# Altium integrated library Altium_Ceramic_Cap.IntLib: 106 symbols (part 3 of 3)
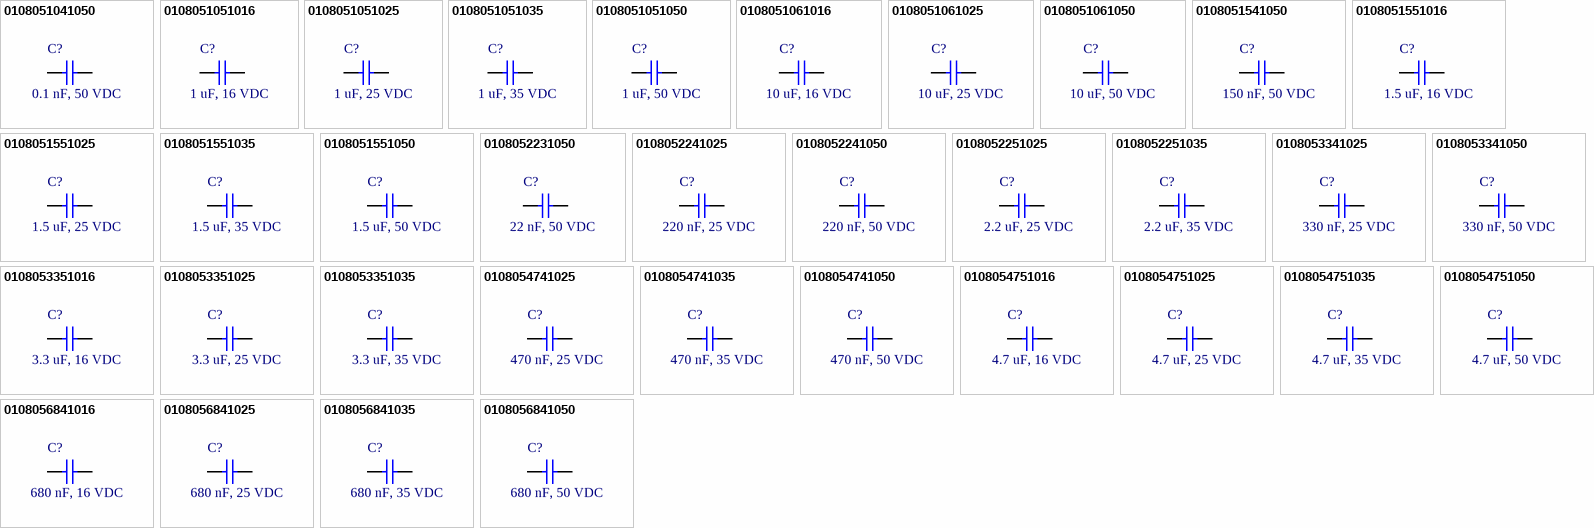
[diagram p7: symbols 0108051041050 to 0108056841050]

## 0108053341050
designator C?, comment 330 nF, 50 VDC
CAP, size 0805, 330 nF, 50 VDC, 10%; Manufacturer: TDK; Manufacturer Part Number: CGA4J2X7R1H334K125AD; Capacitance: 330 nF; Tolerance: +/-10%; Voltage Rating DC: 50 VDC; Packaging: Tape and Reel; Supplier 1 URL: https://www.mouser.vn/ProductDetail/TDK/CGA4J2X7R1H334K125AD?qs=xLDY6iXSiQb7ZJMECTmK7Q%3D%3D&utm_source=mouser-refine-download&utm_medium=file&utm_campaign=CGA4J2X7R1H334K125AD&utm_content=TDK; Supplier 2 URL: https://www.digikey.com/en/products/detail/tdk-corporation/cga4j2x7r1h334k125ad/3933666; Supplier 3 URL: N/A; Value: 330 nF, 50 VDC; Supplier 1: Mouser; Supplier 1 Part Number: 810-CGA4J2X7R1H334KD; Supplier 2: Digi-Key; Supplier 2 Part Number: 445-9933-2-ND; Supplier 3: thegioiic; Supplier 3 Part Number: OEM; ComponentLink1Description: Datasheet; ComponentLink1URL: https://product.tdk.com/system/files/dam/doc/product/capacitor/ceramic/mlcc/catalog/mlcc_automotive_epoxy_en.pdf?ref_disty=mouser; Mount: SMD/SMT; Operating Temperature Max: + 85 C; Operating Temperature Min: - 40 C; Package / Case: 0805
footprint CAP_0805
pins: 1, 2

## 0108053351016
designator C?, comment 3.3 uF, 16 VDC
CAP, size 0805, 3.3 uF, 16 VDC, 10%; Manufacturer: TDK; Manufacturer Part Number: CGA4J1X8L1C335K125AC; Capacitance: 3.3 uF; Tolerance: +/-10%; Voltage Rating DC: 16 VDC; Packaging: Tape and Reel; Supplier 1 URL: https://www.mouser.vn/ProductDetail/TDK/CGA4J1X8L1C335K125AC?qs=j%252B1pi9TdxUbi1c9Zq1jQkQ%3D%3D&utm_source=mouser-refine-download&utm_medium=file&utm_campaign=CGA4J1X8L1C335K125AC&utm_content=TDK; Supplier 2 URL: https://www.digikey.com/en/products/detail/tdk-corporation/cga4j1x8l1c335k125ac/7930940; Supplier 3 URL: N/A; Value: 3.3 uF, 16 VDC; Supplier 1: Mouser; Supplier 1 Part Number: 810-CGA4J1X8L335K125; Supplier 2: Digi-Key; Supplier 2 Part Number: 445-175265-2-ND; Supplier 3: thegioiic; Supplier 3 Part Number: OEM; ComponentLink1Description: Datasheet; ComponentLink1URL: https://product.tdk.com/system/files/dam/doc/product/capacitor/ceramic/mlcc/catalog/mlcc_automotive_hightemp_en.pdf?ref_disty=mouser; Mount: SMD/SMT; Operating Temperature Max: + 85 C; Operating Temperature Min: - 40 C; Package / Case: 0805
footprint CAP_0805
pins: 1, 2

## 0108053351025
designator C?, comment 3.3 uF, 25 VDC
CAP, size 0805, 3.3 uF, 25 VDC, 10%; Manufacturer: TDK; Manufacturer Part Number: CGA4J1X7R1E335K125AD; Capacitance: 3.3 uF; Tolerance: +/-10%; Voltage Rating DC: 25 VDC; Packaging: Tape and Reel; Supplier 1 URL: https://www.mouser.vn/ProductDetail/TDK/CGA4J1X7R1E335K125AD?qs=xLDY6iXSiQbcRzfD3G%2FyFQ%3D%3D&utm_source=mouser-refine-download&utm_medium=file&utm_campaign=CGA4J1X7R1E335K125AD&utm_content=TDK; Supplier 2 URL: https://www.digikey.com/en/products/detail/tdk-corporation/cga4j1x7r1e335k125ad/3933658; Supplier 3 URL: N/A; Value: 3.3 uF, 25 VDC; Supplier 1: Mouser; Supplier 1 Part Number: 810-CGA4J1X7R1E335KD; Supplier 2: Digi-Key; Supplier 2 Part Number: 445-9925-2-ND; Supplier 3: thegioiic; Supplier 3 Part Number: OEM; ComponentLink1Description: Datasheet; ComponentLink1URL: https://product.tdk.com/system/files/dam/doc/product/capacitor/ceramic/mlcc/catalog/mlcc_automotive_epoxy_en.pdf?ref_disty=mouser; Mount: SMD/SMT; Operating Temperature Max: + 85 C; Operating Temperature Min: - 40 C; Package / Case: 0805
footprint CAP_0805
pins: 1, 2

## 0108053351035
designator C?, comment 3.3 uF, 35 VDC
CAP, size 0805, 3.3 uF, 35 VDC, 10%; Manufacturer: TDK; Manufacturer Part Number: CGA4J3X5R1V335K125AB; Capacitance: 3.3 uF; Tolerance: +/-10%; Voltage Rating DC: 35 VDC; Packaging: Tape and Reel; Supplier 1 URL: https://www.mouser.vn/ProductDetail/TDK/CGA4J3X5R1V335K125AB?qs=xLDY6iXSiQaFSu7gdlt5sQ%3D%3D&utm_source=mouser-refine-download&utm_medium=file&utm_campaign=CGA4J3X5R1V335K125AB&utm_content=TDK; Supplier 2 URL: https://www.digikey.com/en/products/detail/tdk-corporation/cga4j3x5r1v335k125ab/3949923; Supplier 3 URL: N/A; Value: 3.3 uF, 35 VDC; Supplier 1: Mouser; Supplier 1 Part Number: 810-CGA4J3X5R1V335KB; Supplier 2: Digi-Key; Supplier 2 Part Number: 445-12687-2-ND; Supplier 3: thegioiic; Supplier 3 Part Number: OEM; ComponentLink1Description: Datasheet; ComponentLink1URL: https://product.tdk.com/system/files/dam/doc/product/capacitor/ceramic/mlcc/catalog/mlcc_automotive_general_en.pdf?ref_disty=mouser; Mount: SMD/SMT; Operating Temperature Max: + 85 C; Operating Temperature Min: - 40 C; Package / Case: 0805
footprint CAP_0805
pins: 1, 2

## 0108054741025
designator C?, comment 470 nF, 25 VDC
CAP, size 0805, 470 nF, 25 VDC, 10%; Manufacturer: TDK; Manufacturer Part Number: CGA4J3X8R1E474K125AE; Capacitance: 470 nF; Tolerance: +/-10%; Voltage Rating DC: 25 VDC; Packaging: Tape and Reel; Supplier 1 URL: https://www.mouser.vn/ProductDetail/TDK/CGA4J3X8R1E474K125AE?qs=nQSIdc08i%252BfiTEOWbexQ7w%3D%3D&utm_source=mouser-refine-download&utm_medium=file&utm_campaign=CGA4J3X8R1E474K125AE&utm_content=TDK; Supplier 2 URL: https://www.digikey.com/en/products/detail/tdk-corporation/cga4j3x8r1h224k125ae/5809350; Supplier 3 URL: N/A; Value: 470 nF, 25 VDC; Supplier 1: Mouser; Supplier 1 Part Number: 810-CGA4J3X8R1E474KA; Supplier 2: Digi-Key; Supplier 2 Part Number: 445-173832-2-ND; Supplier 3: thegioiic; Supplier 3 Part Number: OEM; ComponentLink1Description: Datasheet; ComponentLink1URL: https://product.tdk.com/system/files/dam/doc/product/capacitor/ceramic/mlcc/catalog/mlcc_automotive_soft_en.pdf?ref_disty=mouser; Mount: SMD/SMT; Operating Temperature Max: + 85 C; Operating Temperature Min: - 40 C; Package / Case: 0805
footprint CAP_0805
pins: 1, 2

## 0108054741035
designator C?, comment 470 nF, 35 VDC
CAP, size 0805, 470 nF, 35 VDC, 10%; Manufacturer: TDK; Manufacturer Part Number: CGA4J3X7R1V474K125AB; Capacitance: 470 nF; Tolerance: +/-10%; Voltage Rating DC: 35 VDC; Packaging: Tape and Reel; Supplier 1 URL: https://www.mouser.vn/ProductDetail/TDK/CGA4J3X7R1V474K125AB?qs=xLDY6iXSiQZN9K9El4TmtA%3D%3D&utm_source=mouser-refine-download&utm_medium=file&utm_campaign=CGA4J3X7R1V474K125AB&utm_content=TDK; Supplier 2 URL: https://www.digikey.com/en/products/detail/tdk-corporation/cga4j3x7r1v474k125ab/3949998; Supplier 3 URL: N/A; Value: 470 nF, 35 VDC; Supplier 1: Mouser; Supplier 1 Part Number: 810-CGA4J3X7R1V474KB; Supplier 2: Digi-Key; Supplier 2 Part Number: 445-12762-2-ND; Supplier 3: thegioiic; Supplier 3 Part Number: OEM; ComponentLink1Description: Datasheet; ComponentLink1URL: https://product.tdk.com/system/files/dam/doc/product/capacitor/ceramic/mlcc/catalog/mlcc_automotive_general_en.pdf?ref_disty=mouser; Mount: SMD/SMT; Operating Temperature Max: + 85 C; Operating Temperature Min: - 40 C; Package / Case: 0805
footprint CAP_0805
pins: 1, 2

## 0108054741050
designator C?, comment 470 nF, 50 VDC
CAP, size 0805, 470 nF, 50 VDC, 10%; Manufacturer: TDK; Manufacturer Part Number: CGA4J3X7R1H474K125AE; Capacitance: 470 nF; Tolerance: +/-10%; Voltage Rating DC: 50 VDC; Packaging: Tape and Reel; Supplier 1 URL: https://www.mouser.vn/ProductDetail/TDK/CGA4J3X7R1H474K125AE?qs=FxQuwy19cyDyq8KZpp3nzQ%3D%3D&utm_source=mouser-refine-download&utm_medium=file&utm_campaign=CGA4J3X7R1H474K125AE&utm_content=TDK; Supplier 2 URL: https://www.digikey.com/en/products/detail/tdk-corporation/cga4j3x7r1h474k125ae/3248496; Supplier 3 URL: N/A; Value: 470 nF, 50 VDC; Supplier 1: Mouser; Supplier 1 Part Number: 810-CGA4J3X7R1H474KS; Supplier 2: Digi-Key; Supplier 2 Part Number: 445-8786-2-ND; Supplier 3: thegioiic; Supplier 3 Part Number: OEM; ComponentLink1Description: Datasheet; ComponentLink1URL: https://product.tdk.com/system/files/dam/doc/product/capacitor/ceramic/mlcc/catalog/mlcc_automotive_soft_en.pdf?ref_disty=mouser; Mount: SMD/SMT; Operating Temperature Max: + 85 C; Operating Temperature Min: - 40 C; Package / Case: 0805
footprint CAP_0805
pins: 1, 2

## 0108054751016
designator C?, comment 4.7 uF, 16 VDC
CAP, size 0805, 4.7 uF, 16 VDC, 10%; Manufacturer: TDK; Manufacturer Part Number: CGA4J3X7R1C475K125AD; Capacitance: 4.7 uF; Tolerance: +/-10%; Voltage Rating DC: 16 VDC; Packaging: Tape and Reel; Supplier 1 URL: https://www.mouser.vn/ProductDetail/TDK/CGA4J3X7R1C475K125AD?qs=xLDY6iXSiQZQocmEz6J2xQ%3D%3D&utm_source=mouser-refine-download&utm_medium=file&utm_campaign=CGA4J3X7R1C475K125AD&utm_content=TDK; Supplier 2 URL: https://www.digikey.com/en/products/detail/tdk-corporation/cga4j3x7r1c475k125ad/3933647; Supplier 3 URL: N/A; Value: 4.7 uF, 16 VDC; Supplier 1: Mouser; Supplier 1 Part Number: 810-CGA4J3X7R1C475KD; Supplier 2: Digi-Key; Supplier 2 Part Number: 445-9914-2-ND; Supplier 3: thegioiic; Supplier 3 Part Number: OEM; ComponentLink1Description: Datasheet; ComponentLink1URL: https://product.tdk.com/system/files/dam/doc/product/capacitor/ceramic/mlcc/catalog/mlcc_automotive_epoxy_en.pdf?ref_disty=mouser; Mount: SMD/SMT; Operating Temperature Max: + 85 C; Operating Temperature Min: - 40 C; Package / Case: 0805
footprint CAP_0805
pins: 1, 2

## 0108054751025
designator C?, comment 4.7 uF, 25 VDC
CAP, size 0805, 4.7 uF, 25 VDC, 10%; Manufacturer: TDK; Manufacturer Part Number: CGA4J1X8L1E475K125AC; Capacitance: 4.7 uF; Tolerance: +/-10%; Voltage Rating DC: 25 VDC; Packaging: Tape and Reel; Supplier 1 URL: https://www.mouser.vn/ProductDetail/TDK/CGA4J1X8L1E475K125AC?qs=gZXFycFWdANxpKJOMQuJTA%3D%3D&utm_source=mouser-refine-download&utm_medium=file&utm_campaign=CGA4J1X8L1E475K125AC&utm_content=TDK; Supplier 2 URL: https://www.digikey.com/en/products/detail/tdk-corporation/cga4j1x8l1e475k125ac/9991390; Supplier 3 URL: N/A; Value: 4.7 uF, 25 VDC; Supplier 1: Mouser; Supplier 1 Part Number: 810-CGA4J1X8L1E125AC; Supplier 2: Digi-Key; Supplier 2 Part Number: 445-181605-2-ND; Supplier 3: thegioiic; Supplier 3 Part Number: OEM; ComponentLink1Description: Datasheet; ComponentLink1URL: https://product.tdk.com/system/files/dam/doc/product/capacitor/ceramic/mlcc/catalog/mlcc_automotive_hightemp_en.pdf?ref_disty=mouser; Mount: SMD/SMT; Operating Temperature Max: + 85 C; Operating Temperature Min: - 40 C; Package / Case: 0805
footprint CAP_0805
pins: 1, 2

## 0108054751035
designator C?, comment 4.7 uF, 35 VDC
CAP, size 0805, 4.7 uF, 35 VDC, 10%; Manufacturer: TDK; Manufacturer Part Number: CGA4J1X7R1V475K125AC; Capacitance: 4.7 uF; Tolerance: +/-10%; Voltage Rating DC: 35 VDC; Packaging: Tape and Reel; Supplier 1 URL: https://www.mouser.vn/ProductDetail/TDK/CGA4J1X7R1V475K125AC?qs=xLDY6iXSiQZ6d6YyEJDECQ%3D%3D&utm_source=mouser-refine-download&utm_medium=file&utm_campaign=CGA4J1X7R1V475K125AC&utm_content=TDK; Supplier 2 URL: https://www.digikey.com/en/products/detail/tdk-corporation/cga4j1x7r1v475k125ac/4931472; Supplier 3 URL: N/A; Value: 4.7 uF, 35 VDC; Supplier 1: Mouser; Supplier 1 Part Number: 810-CGA4J1X7R1V475KC; Supplier 2: Digi-Key; Supplier 2 Part Number: 445-175363-2-ND; Supplier 3: thegioiic; Supplier 3 Part Number: OEM; ComponentLink1Description: Datasheet; ComponentLink1URL: https://product.tdk.com/system/files/dam/doc/product/capacitor/ceramic/mlcc/catalog/mlcc_automotive_general_en.pdf?ref_disty=mouser; Mount: SMD/SMT; Operating Temperature Max: + 85 C; Operating Temperature Min: - 40 C; Package / Case: 0805; LCSC Part #: C76651
footprint CAP_0805
pins: 1, 2

## 0108054751050
designator C?, comment 4.7 uF, 50 VDC
CAP, size 0805, 4.7 uF, 50 VDC, 10%; Manufacturer: TDK; Manufacturer Part Number: CGA4J3X5R1H475K125AB; Capacitance: 4.7 uF; Tolerance: +/-10%; Voltage Rating DC: 50 VDC; Packaging: Tape and Reel; Supplier 1 URL: https://www.mouser.vn/ProductDetail/TDK/CGA4J3X5R1H475K125AB?qs=NRhsANhppD%252BfIryPrxoYXQ%3D%3D&utm_source=mouser-refine-download&utm_medium=file&utm_campaign=CGA4J3X5R1H475K125AB&utm_content=TDK; Supplier 2 URL: https://www.digikey.com/en/products/detail/tdk-corporation/cga4j3x5r1h475k125ab/2781308; Supplier 3 URL: N/A; Value: 4.7 uF, 50 VDC; Supplier 1: Mouser; Supplier 1 Part Number: 810-CGA4J3X5R1H475K; Supplier 2: Digi-Key; Supplier 2 Part Number: 445-7882-2-ND; Supplier 3: thegioiic; Supplier 3 Part Number: OEM; ComponentLink1Description: Datasheet; ComponentLink1URL: https://product.tdk.com/system/files/dam/doc/product/capacitor/ceramic/mlcc/catalog/mlcc_automotive_general_en.pdf?ref_disty=mouser; Mount: SMD/SMT; Operating Temperature Max: + 85 C; Operating Temperature Min: - 40 C; Package / Case: 0805; LCSC Part #: C98192
footprint CAP_0805
pins: 1, 2

## 0108056841016
designator C?, comment 680 nF, 16 VDC
CAP, size 0805, 680 nF, 16 VDC, 10%; Manufacturer: TDK; Manufacturer Part Number: CGA4J2X7R1C684K125AA; Capacitance: 680 nF; Tolerance: +/-10%; Voltage Rating DC: 16 VDC; Packaging: Tape and Reel; Supplier 1 URL: https://www.mouser.vn/ProductDetail/TDK/CGA4J2X7R1C684K125AA?qs=NRhsANhppD9WodL6Bvio4Q%3D%3D&utm_source=mouser-refine-download&utm_medium=file&utm_campaign=CGA4J2X7R1C684K125AA&utm_content=TDK; Supplier 2 URL: https://www.digikey.com/en/products/detail/tdk-corporation/cga4j2x7r1c684k125aa/2443166; Supplier 3 URL: N/A; Value: 680 nF, 16 VDC; Supplier 1: Mouser; Supplier 1 Part Number: 810-CGA4J2X7R1C684K; Supplier 2: Digi-Key; Supplier 2 Part Number: 445-5688-2-ND; Supplier 3: thegioiic; Supplier 3 Part Number: OEM; ComponentLink1Description: Datasheet; ComponentLink1URL: https://product.tdk.com/system/files/dam/doc/product/capacitor/ceramic/mlcc/catalog/mlcc_automotive_general_en.pdf?ref_disty=mouser; Mount: SMD/SMT; Operating Temperature Max: + 85 C; Operating Temperature Min: - 40 C; Package / Case: 0805
footprint CAP_0805
pins: 1, 2

## 0108056841025
designator C?, comment 680 nF, 25 VDC
CAP, size 0805, 680 nF, 25 VDC, 10%; Manufacturer: TDK; Manufacturer Part Number: CGA4J3X7R1E684K125AD; Capacitance: 680 nF; Tolerance: +/-10%; Voltage Rating DC: 25 VDC; Packaging: Tape and Reel; Supplier 1 URL: https://www.mouser.vn/ProductDetail/TDK/CGA4J3X7R1E684K125AD?qs=xLDY6iXSiQZgK1EDgpiQ%252Bg%3D%3D&utm_source=mouser-refine-download&utm_medium=file&utm_campaign=CGA4J3X7R1E684K125AD&utm_content=TDK; Supplier 2 URL: https://www.digikey.com/en/products/detail/tdk-corporation/cga4j3x7r1e684k125ad/3933651; Supplier 3 URL: N/A; Value: 680 nF, 25 VDC; Supplier 1: Mouser; Supplier 1 Part Number: 810-CGA4J3X7R1E684KD; Supplier 2: Digi-Key; Supplier 2 Part Number: 445-9918-2-ND; Supplier 3: thegioiic; Supplier 3 Part Number: OEM; ComponentLink1Description: Datasheet; ComponentLink1URL: https://product.tdk.com/system/files/dam/doc/product/capacitor/ceramic/mlcc/catalog/mlcc_automotive_epoxy_en.pdf?ref_disty=mouser; Mount: SMD/SMT; Operating Temperature Max: + 85 C; Operating Temperature Min: - 40 C; Package / Case: 0805
footprint CAP_0805
pins: 1, 2

## 0108056841035
designator C?, comment 680 nF, 35 VDC
CAP, size 0805, 680 nF, 35 VDC, 10%; Manufacturer: TDK; Manufacturer Part Number: CGA4J3X7R1V684K125AB; Capacitance: 680 nF; Tolerance: +/-10%; Voltage Rating DC: 35 VDC; Packaging: Tape and Reel; Supplier 1 URL: https://www.mouser.vn/ProductDetail/TDK/CGA4J3X7R1V684K125AB?qs=xLDY6iXSiQaShuurH7S4IQ%3D%3D&utm_source=mouser-refine-download&utm_medium=file&utm_campaign=CGA4J3X7R1V684K125AB&utm_content=TDK; Supplier 2 URL: https://www.digikey.com/en/products/detail/tdk-corporation/cga4j3x7r1v684k125ab/3950000; Supplier 3 URL: N/A; Value: 680 nF, 35 VDC; Supplier 1: Mouser; Supplier 1 Part Number: 810-CGA4J3X7R1V684KB; Supplier 2: Digi-Key; Supplier 2 Part Number: 445-12764-2-ND; Supplier 3: thegioiic; Supplier 3 Part Number: OEM; ComponentLink1Description: Datasheet; ComponentLink1URL: https://product.tdk.com/system/files/dam/doc/product/capacitor/ceramic/mlcc/catalog/mlcc_automotive_general_en.pdf?ref_disty=mouser; Mount: SMD/SMT; Operating Temperature Max: + 85 C; Operating Temperature Min: - 40 C; Package / Case: 0805
footprint CAP_0805
pins: 1, 2

## 0108056841050
designator C?, comment 680 nF, 50 VDC
CAP, size 0805, 680 nF, 50 VDC, 10%; Manufacturer: TDK; Manufacturer Part Number: CGA4J3X7R1H684K125AB; Capacitance: 680 nF; Tolerance: +/-10%; Voltage Rating DC: 50 VDC; Packaging: Tape and Reel; Supplier 1 URL: https://www.mouser.vn/ProductDetail/TDK/CGA4J3X7R1H684K125AB?qs=NRhsANhppD%252BvDK7XQZcGfw%3D%3D&utm_source=mouser-refine-download&utm_medium=file&utm_campaign=CGA4J3X7R1H684K125AB&utm_content=TDK; Supplier 2 URL: https://www.digikey.com/en/products/detail/tdk-corporation/cga4j3x7r1h684k125ab/2672853; Supplier 3 URL: N/A; Value: 680 nF, 50 VDC; Supplier 1: Mouser; Supplier 1 Part Number: 810-CGA4J3X7R1H684K; Supplier 2: Digi-Key; Supplier 2 Part Number: 445-6960-2-ND; Supplier 3: thegioiic; Supplier 3 Part Number: OEM; ComponentLink1Description: Datasheet; ComponentLink1URL: https://product.tdk.com/system/files/dam/doc/product/capacitor/ceramic/mlcc/catalog/mlcc_automotive_general_en.pdf?ref_disty=mouser; Mount: SMD/SMT; Operating Temperature Max: + 85 C; Operating Temperature Min: - 40 C; Package / Case: 0805
footprint CAP_0805
pins: 1, 2


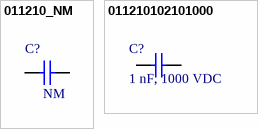
[diagram p4: symbols 011210_NM to 011210102101000]

## 011210_NM
designator C?, comment NM
CAP, size 1210, NM; Packaging: Tape and Reel; Capacitance: N/A; Supplier 1 URL: N/A; Supplier 2 URL: N/A; Supplier 3 URL: N/A; Tolerance: N/A; Voltage Rating DC: N/A; Value: NM; Supplier 1: Mouser; Supplier 1 Part Number: N/A; Supplier 2: Digi-Key; Supplier 2 Part Number: N/A; Supplier 3: thegioiic; Supplier 3 Part Number: N/A; Manufacturer: N/A; Manufacturer Part Number: N/A; ComponentLink1Description: Datasheet; ComponentLink1URL: N/A; Mount: SMD/SMT; Operating Temperature Max: + 85 C; Operating Temperature Min: - 40 C; Package / Case: 1210; LCSC Part #: N/A
footprint CAP_1210 (Chip Capacitor, 2-Leads, Body 3.20x1.60mm, IPC Medium Density)
pins: 1, 2

## 011210102101000
designator C?, comment 1 nF, 1000 VDC
CAP, size 1210, 1nF, 1000 VDC; Manufacturer: TDK; Manufacturer Part Number: C3225C0G3A102J200AE; Tolerance: +/-10%; Capacitance: 1 nF; Packaging: Tape and Reel; Supplier 1 URL: N/A; Supplier 2 URL: N/A; Supplier 3 URL: https://www.thegioiic.com/tu-gom-1210-1nf-1kv; Value: 1 nF, 1000 VDC; Voltage Rating DC: 1000 VDC; Supplier 1: Mouser; Supplier 1 Part Number: N/A; Supplier 2: Digi-Key; Supplier 2 Part Number: N/A; Supplier 3: thegioiic; Supplier 3 Part Number: OEM; ComponentLink1Description: Datasheet; ComponentLink1URL: https://product.tdk.com/system/files/dam/doc/product/capacitor/ceramic/mlcc/catalog/mlcc_commercial_soft_en.pdf?ref_disty=mouser; Mount: SMD/SMT; Operating Temperature Max: + 85 C; Operating Temperature Min: - 40 C; Package / Case: 1210; LCSC Part #: N/A
footprint CAP_1210 (Chip Capacitor, 2-Leads, Body 3.20x1.60mm, IPC Medium Density)
pins: 1, 2


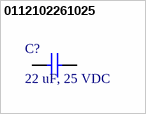
[diagram p5: symbol 0112102261025]

## 0112102261025
designator C?, comment 22 uF, 25 VDC
CAP, size 1210, 22 uF, 25 VDC, 10%; Manufacturer: Samsung Electro-Mechanics; Manufacturer Part Number: CL32B226KAJNNNE; Capacitance: 22 uF; Tolerance: +/-10%; Voltage Rating DC: 25 VDC; ComponentLink1Description: Datasheet; ComponentLink1URL: https://product.tdk.com/system/files/dam/doc/product/capacitor/ceramic/mlcc/catalog/mlcc_automotive_hightemp_en.pdf?ref_disty=mouser; LCSC Part #: C309062; Mount: SMD/SMT; Operating Temperature Max: + 125 C; Operating Temperature Min: - 55 C; Package / Case: 1210; Packaging: Tape and Reel; Supplier 1: Mouser; Supplier 1 Part Number: 187-CL32B226KAJNNNE; Supplier 1 URL: https://www.mouser.com/ProductDetail/Samsung-Electro-Mechanics/CL32B226KAJNNNE?qs=349EhDEZ59oxUqah7LWaWw%3D%3D; Supplier 2: Digi-Key; Supplier 2 Part Number: 1276-3392-2-ND; Supplier 2 URL: https://www.digikey.com/en/products/detail/samsung-electro-mechanics/cl32b226kajnnne/3889050; Supplier 3: thegioiic; Supplier 3 Part Number: N/A; Supplier 3 URL: N/A; Value: 22 uF, 25 VDC
footprint CAP_1210 (Chip Capacitor, 2-Leads, Body 3.20x1.60mm, IPC Medium Density)
pins: 1, 2